# EAGLE library part 1747981-1 (library 1747981-1)
HDMI Receptacle Connector 19 Position Panel Mount; Surface Mount, Right Angle; Through Hole Source: Datasheet <https://www.digikey.com/htmldatasheets/production/12378/0/0/1/2-1747981-1.pdf>
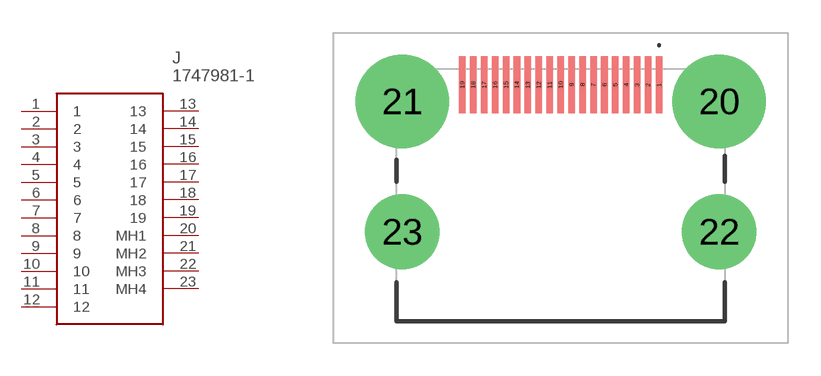
[diagram p0: symbol with the pads of 17479811; footprint 17479811]

Designator prefix J

## 1747981-1 (Description: HDMI Receptacle Connector 19 Position Panel Mount; Surface Mount, Right Angle; Through Hole; Height: 6.38mm; Manufacturer_Name: TE Connectivity; Manufacturer_Part_Number: 1747981-1; Mouser_Part_Number: 571-1747981-1; Mouser_Price-Stock: https://www.mouser.co.uk/ProductDetail/TE-Connectivity/1747981-1?qs=z5WhPA3s7zPU1O1OMn7SIA%3D%3D)  [17479811]
1  1
2  2
3  3
4  4
5  5
6  6
7  7
8  8
9  9
10  10
11  11
12  12
13  13
14  14
15  15
16  16
17  17
18  18
19  19
20  MH1
21  MH2
22  MH3
23  MH4

## Footprint 17479811 (pad centres in mm)
1747981-1-4
smd 0.3 x 2.6: 1 4.5,5.035; 2 4,5.035; 3 3.5,5.035; 4 3,5.035; 5 2.5,5.035; 6 2,5.035; 7 1.5,5.035; 8 1,5.035; 9 0.5,5.035; 10 0,5.035; 11 -0.5,5.035; 12 -1,5.035; 13 -1.5,5.035; 14 -2,5.035; 15 -2.5,5.035; 16 -3,5.035; 17 -3.5,5.035; 18 -4,5.035; 19 -4.5,5.035
drill 2.85 pad 4.275: 20 7.25,4.275; 21 -7.25,4.275
drill 2.28 pad 3.42: 22 7.25,-1.685; 23 -7.25,-1.685